# Altium schematic symbol library SnapEDAsch.SchLib: 1 symbol
Pins are listed as number, name and electrical type; pins without a type are passive.

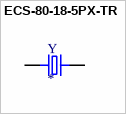
[diagram p0: symbol ECS-80-18-5PX-TR]

## ECS-80-18-5PX-TR
designator Y
8MHz Â±30ppm Crystal 18pF 60 Ohms HC-49/US; MP: ECS-80-18-5PX-TR; MF: ECS Inc.; SnapEDA_Link: https://www.snapeda.com/parts/ECS-80-18-5PX-TR/ECS%20Inc./view-part/470513/?ref=snap; Digi-Key_Purchase_URL: https://www.digikey.com/product-detail/en/ecs-inc/ECS-80-18-5PX-TR/XC1271CT-ND/827735?utm_source=snapeda&utm_medium=aggregator&utm_campaign=symbol; Digi-Key_Part_Number: XC1271CT-ND; Value: *; Package: HC49/US ECS International
footprint XTAL_ECS-80-18-5PX-TR
pins: 1, 2